# Altium schematic symbol library Opto.SchLib: 1 symbol
Pins are listed as number, name and electrical type; pins without a type are passive.

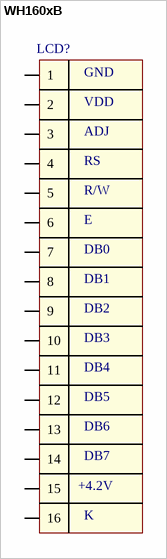
[diagram p0: symbol WH160xB]

## WH160xB
designator LCD?  (value not drawn)
LCD / WH1602B 16x2 / WH1604A 16x4
footprint WH160X
pins: 1, 2, 3, 4, 5, 6, 7, 8, 9, 10, 11, 12, 13, 14, 15, 16
text: GND; VDD; ADJ; RS; R/W; E; DB0; DB1; DB2; DB3; DB4; DB5; DB6; DB7; +4.2V; K